# EAGLE library part 2086592440 (library MolexP24)
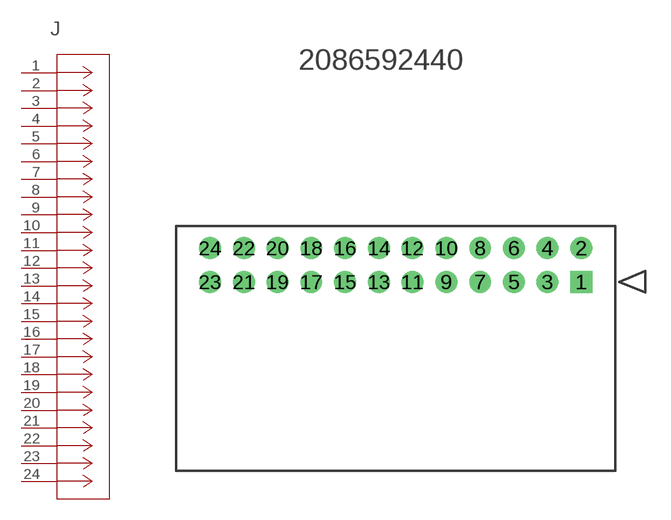
[diagram p0: symbol with the pads of CON_2086592440_MOL; footprint CON_2086592440_MOL]

Designator prefix J

## 2086592440 (BUILT_BY: Molex_Team; COPYRIGHT: Copyright (C) 2018 Accelerated Designs. All rights reserved; DESCRIPTION: 2.00mm Pitch, iGrid PCB Header, Dual Row, Right-Angle, Through Hole, 0.10µm Gold (Au) Plating, Positive Lock, 24 Circuits, Tray, 3.20mm PC Tail Length, Natural; MANUFACTURER_PART_NUMBER: 2086592440; SOURCELIBRARY: Add_to_database_2021-04-21; VENDOR: Molex Connector Corporation)  [CON_2086592440_MOL]
1  1  pas
2  2  pas
3  3  pas
4  4  pas
5  5  pas
6  6  pas
7  7  pas
8  8  pas
9  9  pas
10  10  pas
11  11  pas
12  12  pas
13  13  pas
14  14  pas
15  15  pas
16  16  pas
17  17  pas
18  18  pas
19  19  pas
20  20  pas
21  21  pas
22  22  pas
23  23  pas
24  24  pas

## Footprint CON_2086592440_MOL (pad centres in mm)
drill 0.787 pad 1.143 square: 1 0,0
drill 0.787 pad 1.143: 2 0,2.007; 3 -2.007,0; 4 -2.007,2.007; 5 -3.988,0; 6 -3.988,2.007; 7 -5.994,0; 8 -5.994,2.007; 9 -8.001,0; 10 -8.001,2.007; 11 -10.008,0; 12 -10.008,2.007; 13 -11.989,0; 14 -11.989,2.007; 15 -13.995,0; 16 -13.995,2.007; 17 -16.002,0; 18 -16.002,2.007; 19 -18.009,0; 20 -18.009,2.007; 21 -19.99,0; 22 -19.99,2.007; 23 -21.996,0; 24 -21.996,2.007